# EAGLE library part AD5754R (library custom_parts)
AD5754R 4-channel DAC with internal reference
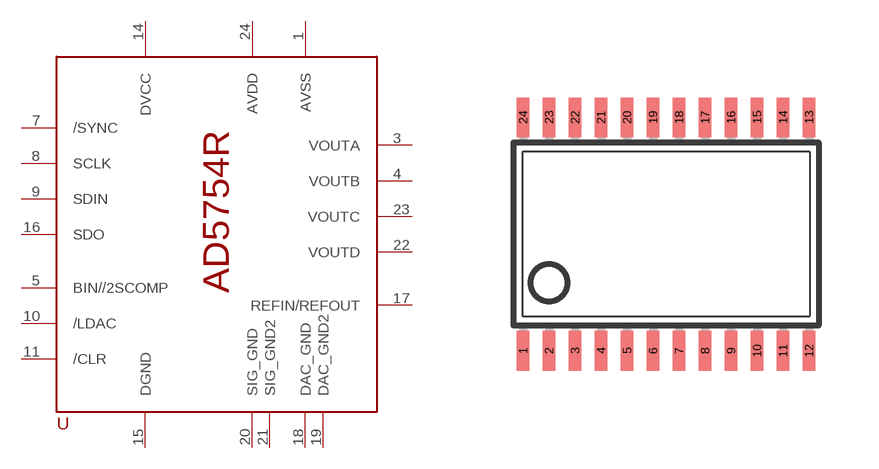
[diagram p2: symbol with the pads of TSSOP24; footprint TSSOP24]

Designator prefix -

## AD5754R  [TSSOP24]
1  AVSS
3  VOUTA
4  VOUTB
5  BIN//2SCOMP
7  /SYNC
8  SCLK
9  SDIN
10  /LDAC
11  /CLR
14  DVCC
15  DGND
16  SDO
17  REFIN/REFOUT
18  DAC_GND
19  DAC_GND2
20  SIG_GND
21  SIG_GND2
22  VOUTD
23  VOUTC
24  AVDD

## Footprint TSSOP24 (pad centres in mm)
Thin Shrink Small Outline Plastic 24 MAX3223-MAX3243.pdf
smd 0.305 x 0.991: 1 -3.575,-2.918; 2 -2.925,-2.918; 3 -2.275,-2.918; 4 -1.625,-2.918; 5 -0.975,-2.918; 6 -0.325,-2.918; 7 0.325,-2.918; 8 0.975,-2.918; 9 1.625,-2.918; 10 2.275,-2.918; 11 2.925,-2.918; 12 3.575,-2.918; 13 3.575,2.918; 14 2.925,2.918; 15 2.275,2.918; 16 1.625,2.918; 17 0.975,2.918; 18 0.325,2.918; 19 -0.325,2.918; 20 -0.975,2.918; 21 -1.625,2.918; 22 -2.275,2.918; 23 -2.925,2.918; 24 -3.575,2.918